# Altium footprint library MacroQMK.PcbLib: 22 footprints (part 2 of 2)
Each footprint in its own frame and in the unit in brackets; x right, y up, seen from the top. Pads: shape width x height; smd on the part's side, far side on the other; paste and mask are expansions set on the pad; w line width, h text height; cw(c..) or ccw(c..) is an arc to the next point about the centre after c.
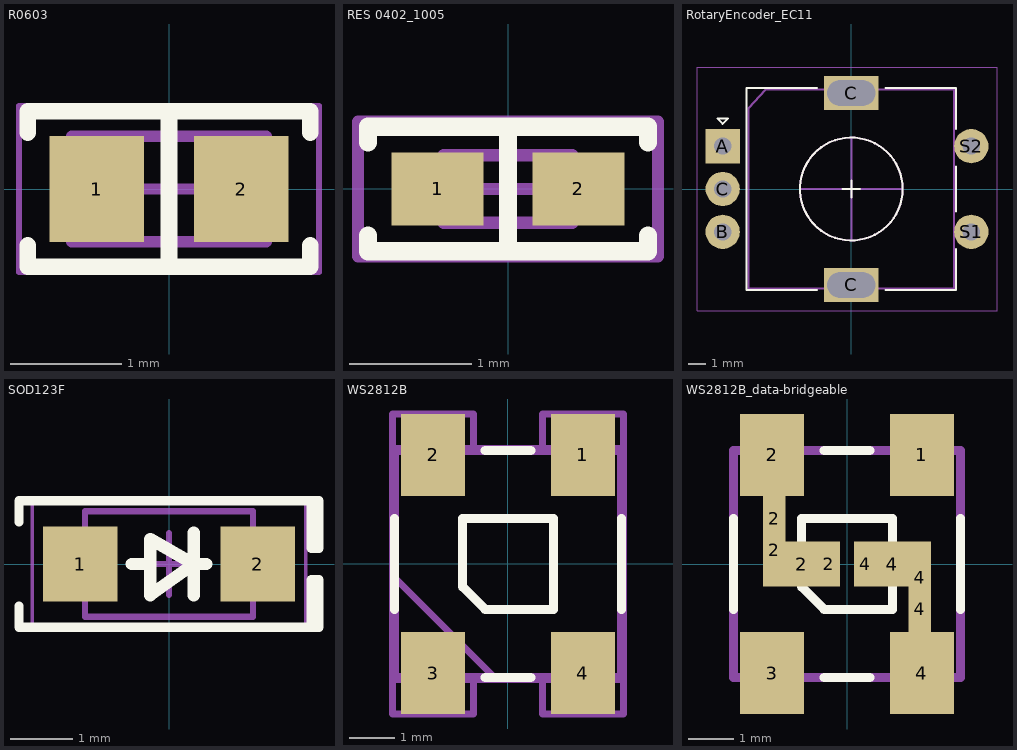
[diagram p1: the footprints below, top view; thin cyan lines are the x and y axes]

## R0603 [mm] "Chip Resistor, 2-Leads, Body 1.60x0.80mm, IPC Medium Density"
height 0.45
pads (2):
  rect 0.85x0.95 smd: 1(-0.65,0) 2(0.65,0)
Top Overlay:
  lines w0.15: -1.27,-0.508 -1.27,-0.7 1.27,-0.7 1.27,-0.508 ; -1.27,0.508 -1.27,0.7 1.27,0.7 1.27,0.508 ; 0,-0.7 0,0.7
Mechanical 13:
  lines w0.1: -0.875,-0.475 0.875,-0.475 0.875,0.475 -0.875,0.475 -0.875,-0.475
Mechanical 15:
  lines w0.05: -1.35,-0.75 1.35,-0.75 1.35,0.75 -1.35,0.75 -1.35,-0.75
  lines w0.1: -0.475,0 0.475,0 ; 0,-0.475 0,0.475
3D body "0603 resistor.STEP": height 0.45, standoff 0, extent -0.8,-0.4 0.8,0.4

## RES 0402_1005 [mm] "Chip Resistor, 2-Leads, Body 1.0x0.5mm, IPC Medium Density"
height 0.4
pads (2):
  rect 0.75x0.6 smd: 1(-0.575,0) 2(0.575,0)
Top Overlay:
  lines w0.15: -1.143,-0.381 -1.143,-0.508 1.143,-0.508 1.143,-0.381 ; -1.143,0.381 -1.143,0.508 1.143,0.508 1.143,0.381 ; 0,-0.508 0,0.508
Mechanical 13:
  lines w0.1: -0.525,-0.275 -0.525,0.275 0.525,0.275 0.525,-0.275 -0.525,-0.275
Mechanical 15:
  lines w0.1: -0.275,0 0.275,0 ; 0,-0.275 0,0.275 ; -1.225,-0.55 -1.225,0.55 1.225,0.55 1.225,-0.55 -1.225,-0.55
3D body "0402 resistor.STEP": height 0.35, standoff 0, extent -0.5,-0.25 0.5,0.25

## RotaryEncoder_EC11 [mm]
pads (7):
  rect 2x2 hole 1: A(-7.5,2.5)
  round 2 hole 1: B(-7.5,-2.5) C(-7.5,0) S1(7,-2.5) S2(7,2.5)
  rect 3.2x2 hole 1.5 slot 2.8 at 0 deg: C(0,-5.6) C(0,5.6)
Top Overlay:
  circle w0.12: c0,0 r3
  lines w0.12: -2,-5.9 -6.1,-5.9 -6.1,5.9 -2,5.9 ; -0.5,0 0.5,0 ; 0,-0.5 0,0.5 ; 2,-5.9 6.1,-5.9 6.1,-3.5 ; 2,5.9 6.1,5.9 6.1,3.5 ; 6.1,-1.3 6.1,1.3 ; -7.8,4.1 -7.5,3.8 -7.2,4.1 -7.8,4.1
Mechanical 4:
  lines w0.05: -9,-7.1 8.5,-7.1 8.5,7.1 -9,7.1 -9,-7.1
Mechanical 6:
  circle w0.12: c0,0 r3
  lines w0.12: -3,0 3,0 ; 0,-3 0,3 ; -6,-5.8 6,-5.8 6,5.8 -5,5.8 -6,4.7 -6,-5.8
3D body "482016514001--3DModel-STEP-56544.STEP": height 26.11, standoff -3.99, extent -7.6,-5.596 7.25,6.104

## SOD123F [mm] "SODFL, 2-Leads, Body 1.60x3.50mm, IPC Medium Density"
height 1
pads (2):
  rect 1.2x1.2 smd: 1(-1.43,0) 2(1.43,0)
Top Overlay:
  lines w0.15: -2.413,-0.675 -2.413,-1.016 2.286,-1.016 ; -2.413,0.675 -2.413,1.016 2.286,1.016 ; 2.286,-1.016 2.286,-0.254 2.413,-0.254 2.413,-1.016 2.286,-1.016 ; 2.286,1.016 2.413,1.016 2.413,0.254 2.286,0.254 2.286,1.016
  lines w0.2: -0.6,0 -0.3,0 ; 0.4,-0.5 0.4,0.5 ; 0.6,0 0.4,0 ; 0.4,0 -0.3,-0.5 -0.3,0.4 0.4,0
Mechanical 13:
  lines w0.1: -1.35,-0.85 1.35,-0.85 1.35,0.85 -1.35,0.85 -1.35,-0.85
Mechanical 15:
  lines w0.05: -2.2,-1 2.2,-1 2.2,1 -2.2,1 -2.2,-1
  lines w0.1: -0.5,0 0.5,0 ; 0,-0.5 0,0.5
3D body "SOD123F.STEP": height 1.1, standoff 0, extent -1.75,-0.8 1.75,0.8

## WS2812B [mm]
pads (4):
  rect 1.4x1.8 smd: 1(1.65,2.4) 2(-1.65,2.4) 3(-1.65,-2.4) 4(1.65,-2.4)
Top Overlay:
  lines w0.2: -2.5,-1 -2.5,1 ; -0.5,-2.5 0.5,-2.5 ; -0.5,2.5 0.5,2.5 ; 2.5,-1 2.5,1 ; -1,-0.5 -0.5,-1 1,-1 1,1 -1,1 -1,-0.5
Mechanical 2:
  lines w0.2: -2.5,-2.5 -2.1,-2.5 ; -2.5,2.5 -2.1,2.5 ; -2.499,-2.499 -2.499,2.499 ; -1.2,-2.5 1.2,-2.5 ; -1.2,2.5 1.2,2.5 ; 2.1,-2.5 2.5,-2.5 2.5,2.5 2.1,2.5 ; -2.1,-2.7 -2.1,-1.8 -1.2,-1.8 -1.2,-2.7 -2.1,-2.7 ; -2.1,1.8 -1.2,1.8 -1.2,2.7 -2.1,2.7 -2.1,1.8 ; 1.2,-2.7 1.2,-1.8 2.1,-1.8 2.1,-2.7 1.2,-2.7 ; 1.2,1.8 1.2,2.7 2.1,2.7 2.1,1.8 1.2,1.8
Mechanical 4:
  lines w0.15: -2.54,-0.254 -0.254,-2.54 ; -0.762,-2.54 -0.762,-3.302 -2.54,-3.302 -2.54,-2.54 ; -0.762,2.54 -0.762,3.302 -2.54,3.302 -2.54,2.54 ; 0.762,-2.54 0.762,-3.302 2.54,-3.302 2.54,-2.54 ; 0.762,2.54 0.762,3.302 2.54,3.302 2.54,2.54 ; -2.54,-2.54 2.54,-2.54 ; -2.54,-2.54 -2.54,2.54 ; -2.54,2.54 2.54,2.54 ; 2.54,-2.54 2.54,2.54

## WS2812B_data-bridgeable [mm]
pads (12):
  rect 1.4x1.8 smd: 1(1.65,2.4) 2(-1.65,2.4) 3(-1.65,-2.4) 4(1.65,-2.4)
  rect 0.5x1.6 smd: 2(-1.6,0.3) 4(1.6,-0.3)
  rect 0.5x3 smd: 2(-1.6,1) 4(1.6,-1)
  rect 1.7x1 smd: 2(-1,0) 4(1,0)
  rect 0.5x1 smd: 2(-0.4,0) 4(0.4,0)
Top Overlay:
  lines w0.2: -2.5,-1 -2.5,1 ; -0.5,-2.5 0.5,-2.5 ; -0.5,2.5 0.5,2.5 ; 2.5,-1 2.5,1 ; -1,-0.5 -1,1 1,1 1,-1 -0.5,-1 -1,-0.5
Mechanical 2:
  lines w0.2: -2.5,-2.5 -2.1,-2.5 ; -2.5,2.5 -2.1,2.5 ; -2.499,-2.499 -2.499,2.499 ; -1.2,-2.5 1.2,-2.5 ; -1.2,2.5 1.2,2.5 ; 2.1,-2.5 2.5,-2.5 2.5,2.5 2.1,2.5 ; -2.1,-2.7 -1.2,-2.7 -1.2,-1.8 -2.1,-1.8 -2.1,-2.7 ; -2.1,1.8 -2.1,2.7 -1.2,2.7 -1.2,1.8 -2.1,1.8 ; 1.2,-2.7 2.1,-2.7 2.1,-1.8 1.2,-1.8 1.2,-2.7 ; 1.2,1.8 2.1,1.8 2.1,2.7 1.2,2.7 1.2,1.8